# EAGLE library part STM32-100P-?* (library CougsInSpace-IC-µController)
STM 32b µController - 100 Pin STM32L476Vx <https://github.com/CougsInSpace/Resources/blob/master/SupplierDocuments/ST/STM32L476.pdf> STM32L496Vx <https://github.com/CougsInSpace/Resources/blob/master/SupplierDocuments/ST/STM32L496.pdf>
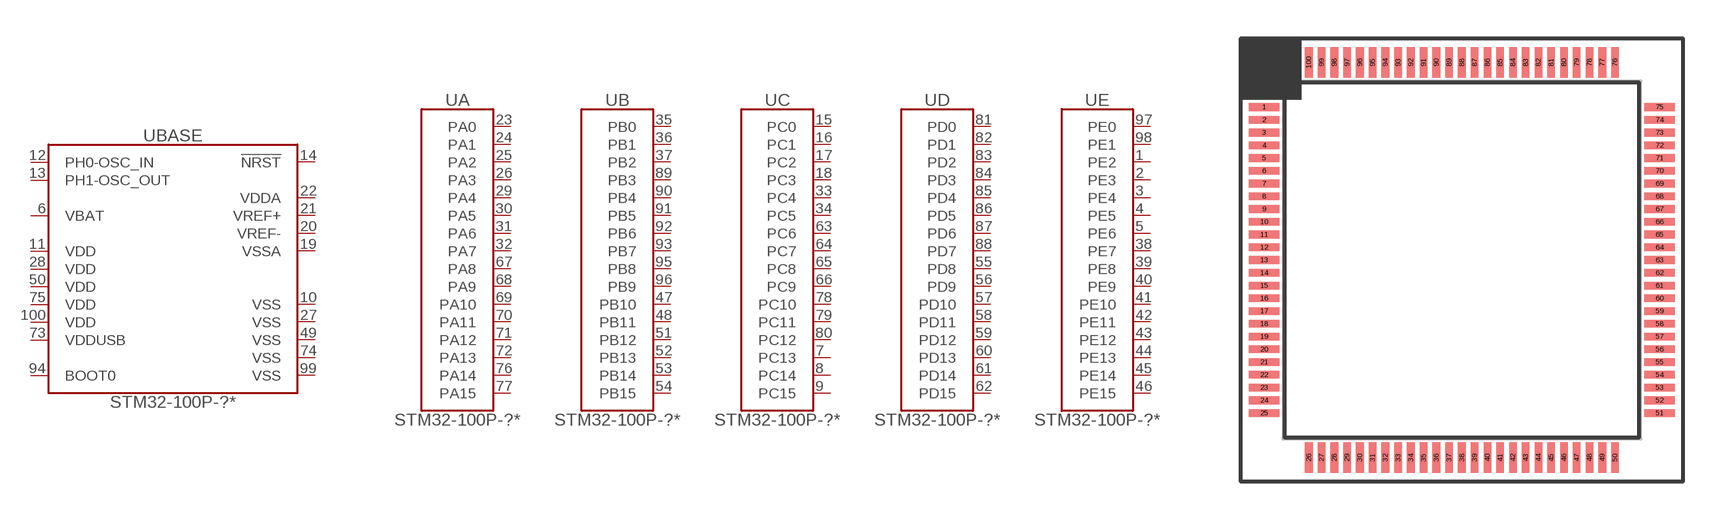
[diagram p1: symbol with the pads of QFP-100-1414; footprint QFP-100-1414]

Designator prefix U; gates BASE=STM32BASE-100 A=GPIO_A-16 B=GPIO_B-16 C=GPIO_C-16 D=GPIO_D-16 E=GPIO_E-16

## STM32-100P-L496VGT (FLASH: 1 MB; SKU: 61-0003; VALUE: STM32L496VGT)  [QFP-100-1414]
1  E:PE2
2  E:PE3
3  E:PE4
4  E:PE5
5  E:PE6
6  BASE:VBAT  pas
7  C:PC13
8  C:PC14
9  C:PC15
10  BASE:VSS  pwr
11  BASE:VDD  pwr
12  BASE:PH0-OSC_IN
13  BASE:PH1-OSC_OUT
14  BASE:!NRST  in
15  C:PC0
16  C:PC1
17  C:PC2
18  C:PC3
19  BASE:VSSA  pwr
20  BASE:VREF-  in
21  BASE:VREF+  in
22  BASE:VDDA  pwr
23  A:PA0
24  A:PA1
25  A:PA2
26  A:PA3
27  BASE:VSS  pwr
28  BASE:VDD  pwr
29  A:PA4
30  A:PA5
31  A:PA6
32  A:PA7
33  C:PC4
34  C:PC5
35  B:PB0
36  B:PB1
37  B:PB2
38  E:PE7
39  E:PE8
40  E:PE9
41  E:PE10
42  E:PE11
43  E:PE12
44  E:PE13
45  E:PE14
46  E:PE15
47  B:PB10
48  B:PB11
49  BASE:VSS  pwr
50  BASE:VDD  pwr
51  B:PB12
52  B:PB13
53  B:PB14
54  B:PB15
55  D:PD8
56  D:PD9
57  D:PD10
58  D:PD11
59  D:PD12
60  D:PD13
61  D:PD14
62  D:PD15
63  C:PC6
64  C:PC7
65  C:PC8
66  C:PC9
67  A:PA8
68  A:PA9
69  A:PA10
70  A:PA11
71  A:PA12
72  A:PA13
73  BASE:VDDUSB  pwr
74  BASE:VSS  pwr
75  BASE:VDD  pwr
76  A:PA14
77  A:PA15
78  C:PC10
79  C:PC11
80  C:PC12
81  D:PD0
82  D:PD1
83  D:PD2
84  D:PD3
85  D:PD4
86  D:PD5
87  D:PD6
88  D:PD7
89  B:PB3
90  B:PB4
91  B:PB5
92  B:PB6
93  B:PB7
94  BASE:BOOT0  in
95  B:PB8
96  B:PB9
97  E:PE0
98  E:PE1
99  BASE:VSS  pwr
100  BASE:VDD  pwr

## Footprint QFP-100-1414 (pad centres in mm)
Quad Flat Package (QFP) - 100 pins - 14 x 14 mm
smd 1.2 x 0.3: 1 -7.75,6; 2 -7.75,5.5; 3 -7.75,5; 4 -7.75,4.5; 5 -7.75,4; 6 -7.75,3.5; 7 -7.75,3; 8 -7.75,2.5; 9 -7.75,2; 10 -7.75,1.5; 11 -7.75,1; 12 -7.75,0.5; 13 -7.75,0; 14 -7.75,-0.5; 15 -7.75,-1; 16 -7.75,-1.5; 17 -7.75,-2; 18 -7.75,-2.5; 19 -7.75,-3; 20 -7.75,-3.5; 21 -7.75,-4; 22 -7.75,-4.5; 23 -7.75,-5; 24 -7.75,-5.5; 25 -7.75,-6; 51 7.75,-6; 52 7.75,-5.5; 53 7.75,-5; 54 7.75,-4.5; 55 7.75,-4; 56 7.75,-3.5; 57 7.75,-3; 58 7.75,-2.5; 59 7.75,-2; 60 7.75,-1.5; 61 7.75,-1; 62 7.75,-0.5; 63 7.75,0; 64 7.75,0.5; 65 7.75,1; 66 7.75,1.5; 67 7.75,2; 68 7.75,2.5; 69 7.75,3; 70 7.75,3.5; 71 7.75,4; 72 7.75,4.5; 73 7.75,5; 74 7.75,5.5; 75 7.75,6
smd 0.3 x 1.2: 26 -6,-7.75; 27 -5.5,-7.75; 28 -5,-7.75; 29 -4.5,-7.75; 30 -4,-7.75; 31 -3.5,-7.75; 32 -3,-7.75; 33 -2.5,-7.75; 34 -2,-7.75; 35 -1.5,-7.75; 36 -1,-7.75; 37 -0.5,-7.75; 38 0,-7.75; 39 0.5,-7.75; 40 1,-7.75; 41 1.5,-7.75; 42 2,-7.75; 43 2.5,-7.75; 44 3,-7.75; 45 3.5,-7.75; 46 4,-7.75; 47 4.5,-7.75; 48 5,-7.75; 49 5.5,-7.75; 50 6,-7.75; 76 6,7.75; 77 5.5,7.75; 78 5,7.75; 79 4.5,7.75; 80 4,7.75; 81 3.5,7.75; 82 3,7.75; 83 2.5,7.75; 84 2,7.75; 85 1.5,7.75; 86 1,7.75; 87 0.5,7.75; 88 0,7.75; 89 -0.5,7.75; 90 -1,7.75; 91 -1.5,7.75; 92 -2,7.75; 93 -2.5,7.75; 94 -3,7.75; 95 -3.5,7.75; 96 -4,7.75; 97 -4.5,7.75; 98 -5,7.75; 99 -5.5,7.75; 100 -6,7.75